# Altium footprint library Packaging.PcbLib: 4 footprints
Each footprint in its own frame and in the unit in brackets; x right, y up, seen from the top. Pads: shape width x height; smd on the part's side, far side on the other; paste and mask are expansions set on the pad; w line width, h text height; cw(c..) or ccw(c..) is an arc to the next point about the centre after c.
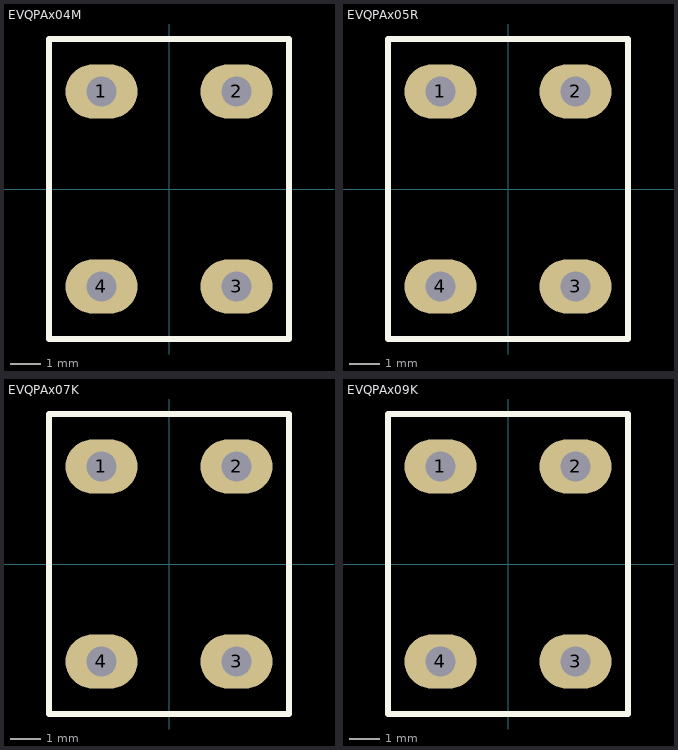
[diagram p0: the footprints below, top view; thin cyan lines are the x and y axes]

## EVQPAx04M [mm]
pads (4):
  oval 2.4x1.8 hole 1: 1(-2.25,3.25) 2(2.25,3.25) 3(2.25,-3.25) 4(-2.25,-3.25)
Top Overlay:
  lines w0.2: -4,-5 -4,5 4,5 4,-5 -4,-5
3D body: height 3.4, standoff 0.1, extent -3.1,-3.1 3.1,3.1
3D body: height 3.9, standoff 3.4, extent -3.1,-3.1 3.1,3.1
3D body: height 4.3, standoff 0, extent -1.8,-1.8 1.8,1.8
3D body: height 0.5, standoff -3.17, extent 1.9,-3.377 2.6,-3.123
3D body: height 0.5, standoff -3.17, extent -2.6,-3.377 -1.9,-3.123
3D body: height 0.5, standoff -3.17, extent -2.6,3.123 -1.9,3.377
3D body: height 0.5, standoff -3.17, extent 1.9,3.123 2.6,3.377

## EVQPAx05R [mm]
pads (4):
  oval 2.4x1.8 hole 1: 1(-2.25,3.25) 2(2.25,3.25) 3(2.25,-3.25) 4(-2.25,-3.25)
Top Overlay:
  lines w0.2: -4,-5 -4,5 4,5 4,-5 -4,-5
3D body: height 3.4, standoff 0.1, extent -3.1,-3.1 3.1,3.1
3D body: height 3.9, standoff 3.4, extent -3.1,-3.1 3.1,3.1
3D body: height 5, standoff 0, extent -1.797,-1.799 1.8,1.799
3D body: height 0.5, standoff -3.17, extent 1.9,-3.377 2.6,-3.123
3D body: height 0.5, standoff -3.17, extent -2.6,-3.377 -1.9,-3.123
3D body: height 0.5, standoff -3.17, extent -2.6,3.123 -1.9,3.377
3D body: height 0.5, standoff -3.17, extent 1.9,3.123 2.6,3.377

## EVQPAx07K [mm]
pads (4):
  oval 2.4x1.8 hole 1: 1(-2.25,3.25) 2(2.25,3.25) 3(2.25,-3.25) 4(-2.25,-3.25)
Top Overlay:
  lines w0.2: -4,-5 -4,5 4,5 4,-5 -4,-5
3D body: height 3.4, standoff 0.1, extent -3.1,-3.1 3.1,3.1
3D body: height 3.9, standoff 3.4, extent -3.1,-3.1 3.1,3.1
3D body: height 7, standoff 0, extent -1.8,-1.796 1.8,1.797
3D body: height 0.5, standoff -3.17, extent 1.9,-3.377 2.6,-3.123
3D body: height 0.5, standoff -3.17, extent -2.6,-3.377 -1.9,-3.123
3D body: height 0.5, standoff -3.17, extent -2.6,3.123 -1.9,3.377
3D body: height 0.5, standoff -3.17, extent 1.9,3.123 2.6,3.377

## EVQPAx09K [mm]
pads (4):
  oval 2.4x1.8 hole 1: 1(-2.25,3.25) 2(2.25,3.25) 3(2.25,-3.25) 4(-2.25,-3.25)
Top Overlay:
  lines w0.2: -4,-5 -4,5 4,5 4,-5 -4,-5
3D body: height 3.4, standoff 0.1, extent -3.1,-3.1 3.1,3.1
3D body: height 3.9, standoff 3.4, extent -3.1,-3.1 3.1,3.1
3D body: height 9.5, standoff 0, extent -1.795,-1.799 1.8,1.799
3D body: height 0.5, standoff -3.17, extent 1.9,-3.377 2.6,-3.123
3D body: height 0.5, standoff -3.17, extent -2.6,-3.377 -1.9,-3.123
3D body: height 0.5, standoff -3.17, extent -2.6,3.123 -1.9,3.377
3D body: height 0.5, standoff -3.17, extent 1.9,3.123 2.6,3.377